# Altium integrated library Integrated_Library1.IntLib: 6 symbols
Pins are listed as number, name and electrical type; pins without a type are passive.

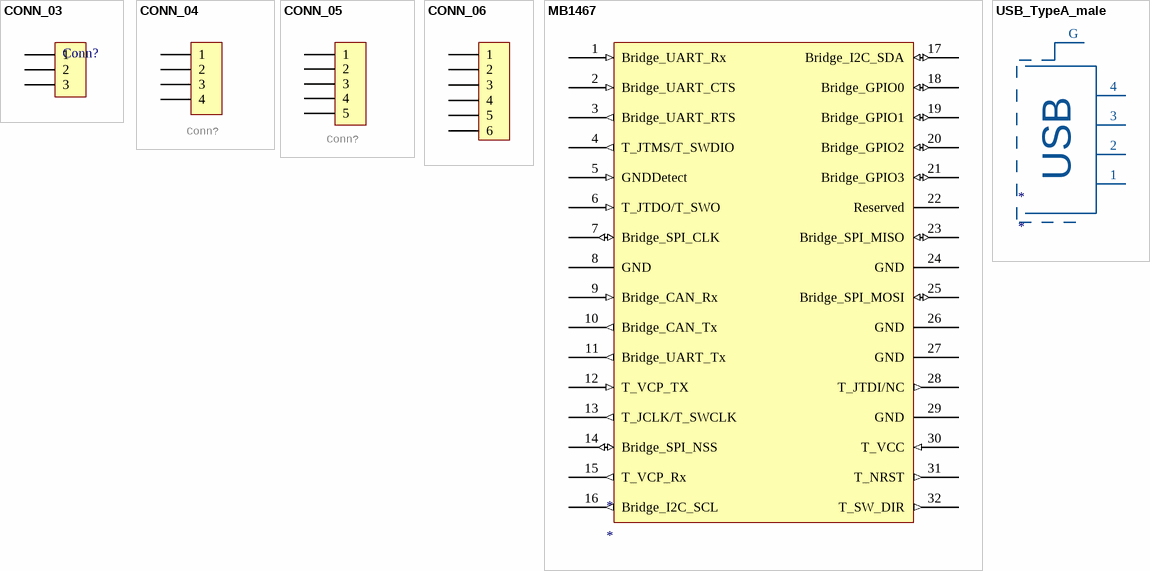
[diagram p0: symbols CONN_03 to USB_TypeA_male]

## CONN_03
designator Conn?
Header, 3-Pin
footprint CONNECT_3P
pins: 1, 2, 3

## CONN_04
designator Conn?  (value not drawn)
Header, 4-Pin; GateName_1: G$1; PROD_ID: CONN-09696; SymbolName_1: CONN_04; LibraryName: SparkFun-Connectors; DeviceSetName: CONN_04
footprint CONNECT_4P
pins: 1, 2, 3, 4

## CONN_05
designator Conn?  (value not drawn)
Header, 5-Pin; GateName_1: G$1; SymbolName_1: CONN_05; LibraryName: SparkFun-Connectors; DeviceSetName: CONN_05
footprint CONNECT_5P
pins: 1, 2, 3, 4, 5

## CONN_06
designator Conn?, comment CONN_06SILK_FEMALE_PTH  (value not drawn)
Header, 6-Pin; GateName_1: G$1; PROD_ID: CONN-08437; SymbolName_1: CONN_06; DeviceName: SILK_FEMALE_PTH; LibraryName: SparkFun-Connectors; DeviceSetName: CONN_06
footprint CONNECT_6P_90
footprint CONNECT_6P
pins: 1, 2, 3, 4, 5, 6

## MB1467
designator *
footprint MB1467 (ST-LINK-v3-mini)
pins: 1 Bridge_UART_Rx (in), 2 Bridge_UART_CTS (in), 3 Bridge_UART_RTS (out), 4 T_JTMS/T_SWDIO (out), 5 GNDDetect (in), 6 T_JTDO/T_SWO (in), 7 Bridge_SPI_CLK (io), 8 GND, 9 Bridge_CAN_Rx (in), 10 Bridge_CAN_Tx (out), 11 Bridge_UART_Tx (out), 12 T_VCP_TX (in), 13 T_JCLK/T_SWCLK (out), 14 Bridge_SPI_NSS (io), 15 T_VCP_Rx (out), 16 Bridge_I2C_SCL (out), 17 Bridge_I2C_SDA (io), 18 Bridge_GPIO0 (io), 19 Bridge_GPIO1 (io), 20 Bridge_GPIO2 (io), 21 Bridge_GPIO3 (io), 22 Reserved, 23 Bridge_SPI_MISO (io), 24 GND, 25 Bridge_SPI_MOSI (io), 26 GND, 27 GND, 28 T_JTDI/NC (out), 29 GND, 30 T_VCC (in), 31 T_NRST (out), 32 T_SW_DIR (out)

## USB_TypeA_male
designator *
footprint USB_Type_A male
pins: 1, 2, 3, 4, G
text: USB